# Altium schematic symbol library local.SchLib: 16 symbols
Pins are listed as number, name and electrical type; pins without a type are passive.

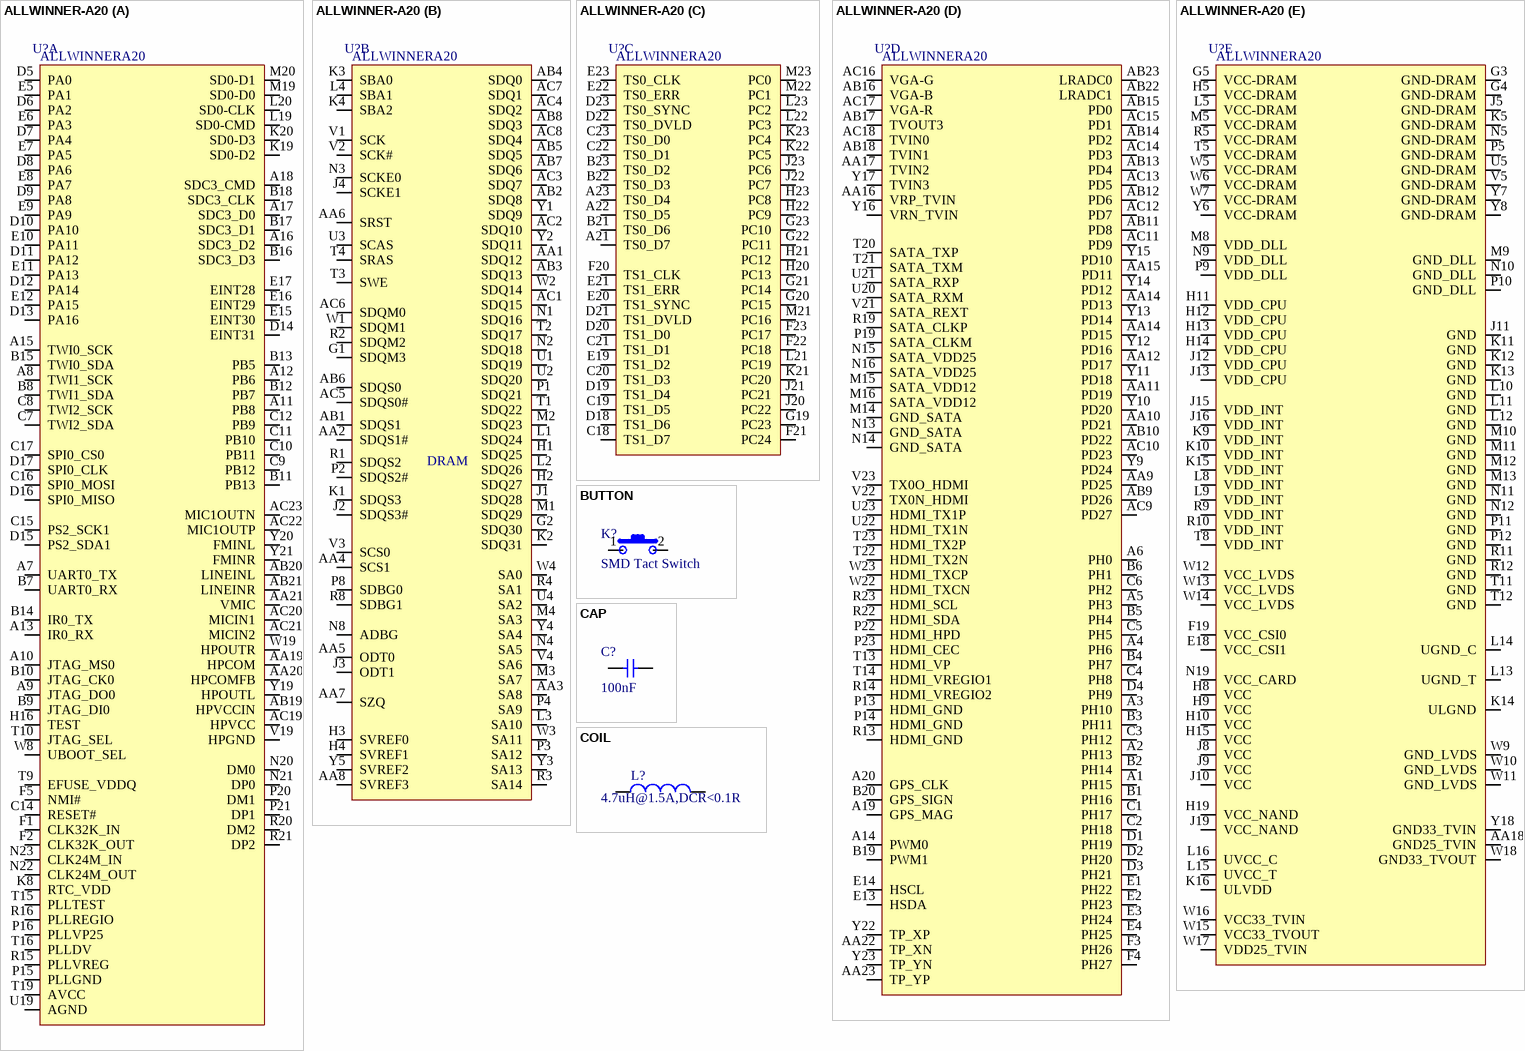
[diagram p0: symbols ALLWINNER-A20 to COIL]

## ALLWINNER-A20
designator U?, comment MPN: ALLWINNERA20  (hidden comment: Allwinner A20 SOC)
footprint A20
part A pins: A7 UART0_TX, A8 TWI1_SCK, A9 JTAG_DO0, A10 JTAG_MS0, A11 PB8, A12 PB6, A13 IR0_RX, A15 TWI0_SCK, A16 SDC3_D2, A17 SDC3_D0, A18 SDC3_CMD, AA19 HPCOM, AA20 HPCOMFB, AA21 VMIC, AB19 HPVCCIN, AB20 LINEINL, AB21 LINEINR, AC19 HPVCC, AC20 MICIN1, AC21 MICIN2, AC22 MIC1OUTP, AC23 MIC1OUTN, B7 UART0_RX, B8 TWI1_SDA, B9 JTAG_DI0, B10 JTAG_CK0, B11 PB13, B12 PB7, B13 PB5, B14 IR0_TX, B15 TWI0_SDA, B16 SDC3_D3, B17 SDC3_D1, B18 SDC3_CLK, C7 TWI2_SDA, C8 TWI2_SCK, C9 PB12, C10 PB11, C11 PB10, C12 PB9, C14 RESET#, C15 PS2_SCK1, C16 SPI0_MOSI, C17 SPI0_CS0, D5 PA0, D6 PA2, D7 PA4, D8 PA6, D9 PA8, D10 PA10, D11 PA12, D12 PA14, D13 PA16, D14 EINT31, D15 PS2_SDA1, D16 SPI0_MISO, D17 SPI0_CLK, E5 PA1, E6 PA3, E7 PA5, E8 PA7, E9 PA9, E10 PA11, E11 PA13, E12 PA15, E15 EINT30, E16 EINT29, E17 EINT28, F1 CLK32K_IN, F2 CLK32K_OUT, F5 NMI#, H16 TEST, K8 RTC_VDD, K19 SD0-D2, K20 SD0-D3, L19 SD0-CMD, L20 SD0-CLK, M19 SD0-D0, M20 SD0-D1, N20 DM0, N21 DP0, N22 CLK24M_OUT, N23 CLK24M_IN, P15 PLLGND, P16 PLLVP25, P20 DM1, P21 DP1, R15 PLLVREG, R16 PLLREGIO, R20 DM2, R21 DP2, T9 EFUSE_VDDQ, T10 JTAG_SEL, T15 PLLTEST, T16 PLLDV, T19 AVCC, U19 AGND, V19 HPGND, W8 UBOOT_SEL, W19 HPOUTR, Y19 HPOUTL, Y20 FMINL, Y21 FMINR
part B pins: AA1 SDQ12, AA2 SDQS1#, AA3 SA8 (power), AA4 SCS1, AA5 ODT0, AA6 SRST, AA7 SZQ, AA8 SVREF3 (power), AB1 SDQS1, AB2 SDQ8, AB3 SDQ13, AB4 SDQ0, AB5 SDQ5, AB6 SDQS0, AB7 SDQ6, AB8 SDQ3, AC1 SDQ15, AC2 SDQ10, AC3 SDQ7, AC4 SDQ2, AC5 SDQS0#, AC6 SDQM0, AC7 SDQ1, AC8 SDQ4, G1 SDQM3, G2 SDQ30 (power), H1 SDQ25 (power), H2 SDQ27 (power), H3 SVREF0 (power), H4 SVREF1 (power), J1 SDQ28 (power), J2 SDQS3#, J3 ODT1, J4 SCKE1, K1 SDQS3, K2 SDQ31 (power), K3 SBA0, K4 SBA2, L1 SDQ24 (power), L2 SDQ26 (power), L3 SA10 (power), L4 SBA1, M1 SDQ29 (power), M2 SDQ23 (power), M3 SA7 (power), M4 SA3 (power), N1 SDQ16, N2 SDQ18, N3 SCKE0, N4 SA5 (power), N8 ADBG, P1 SDQ21 (power), P2 SDQS2#, P3 SA12 (power), P4 SA9 (power), P8 SDBG0, R1 SDQS2, R2 SDQM2, R3 SA14 (power), R4 SA1 (power), R8 SDBG1, T1 SDQ22 (power), T2 SDQ17, T3 SWE, T4 SRAS, U1 SDQ19, U2 SDQ20, U3 SCAS, U4 SA2 (power), V1 SCK, V2 SCK#, V3 SCS0, V4 SA6 (power), W1 SDQM1, W2 SDQ14, W3 SA11 (power), W4 SA0 (power), Y1 SDQ9, Y2 SDQ11, Y3 SA13 (power), Y4 SA4 (power), Y5 SVREF2 (power)
part C pins: A21 TS0_D7, A22 TS0_D5, A23 TS0_D4, B21 TS0_D6, B22 TS0_D3, B23 TS0_D2, C18 TS1_D7, C19 TS1_D5, C20 TS1_D3, C21 TS1_D1, C22 TS0_D1, C23 TS0_D0, D18 TS1_D6, D19 TS1_D4, D20 TS1_D0, D21 TS1_DVLD, D22 TS0_DVLD, D23 TS0_SYNC, E19 TS1_D2, E20 TS1_SYNC, E21 TS1_ERR, E22 TS0_ERR, E23 TS0_CLK, F20 TS1_CLK, F21 PC24, F22 PC18, F23 PC17, G19 PC23, G20 PC15, G21 PC14, G22 PC11, G23 PC10, H20 PC13, H21 PC12, H22 PC9, H23 PC8, J20 PC22, J21 PC21, J22 PC7, J23 PC6, K21 PC20, K22 PC5, K23 PC4, L21 PC19, L22 PC3, L23 PC2, M21 PC16, M22 PC1, M23 PC0
part D pins: A1 PH15, A2 PH13, A3 PH10, A4 PH6, A5 PH3, A6 PH0, A14 PWM0, A19 GPS_MAG, A20 GPS_CLK, AA9 PD25, AA10 PD21, AA11 PD19, AA12 PD17, AA14 PD13, AA14 PD15, AA15 PD11, AA16 VRP_TVIN, AA17 TVIN2, AA22 TP_XN, AA23 TP_YP, AB9 PD26, AB10 PD22, AB11 PD8, AB12 PD6, AB13 PD4, AB14 PD2, AB15 PD0, AB16 VGA-B, AB17 TVOUT3, AB18 TVIN1, AB22 LRADC1, AB23 LRADC0, AC9 PD27, AC10 PD23, AC11 PD9, AC12 PD7, AC13 PD5, AC14 PD3, AC15 PD1, AC16 VGA-G, AC17 VGA-R, AC18 TVIN0, B1 PH16, B2 PH14, B3 PH11, B4 PH7, B5 PH4, B6 PH1, B19 PWM1, B20 GPS_SIGN, C1 PH17, C2 PH18, C3 PH12, C4 PH8, C5 PH5, C6 PH2, D1 PH19, D2 PH20, D3 PH21, D4 PH9, E1 PH22, E2 PH23, E3 PH24, E4 PH25, E13 HSDA, E14 HSCL, F3 PH26, F4 PH27, M14 GND_SATA, M15 SATA_VDD12, M16 SATA_VDD12, N13 GND_SATA, N14 GND_SATA, N15 SATA_VDD25, N16 SATA_VDD25, P13 HDMI_GND, P14 HDMI_GND, P19 SATA_CLKM, P22 HDMI_HPD, P23 HDMI_CEC, R13 HDMI_GND, R14 HDMI_VREGIO2, R19 SATA_CLKP, R22 HDMI_SDA, R23 HDMI_SCL, T13 HDMI_VP, T14 HDMI_VREGIO1, T20 SATA_TXP, T21 SATA_TXM, T22 HDMI_TX2N, T23 HDMI_TX2P, U20 SATA_RXM, U21 SATA_RXP, U22 HDMI_TX1N, U23 HDMI_TX1P, V21 SATA_REXT, V22 TX0N_HDMI, V23 TX0O_HDMI, W22 HDMI_TXCN, W23 HDMI_TXCP, Y9 PD24, Y10 PD20, Y11 PD18, Y12 PD16, Y13 PD14, Y14 PD12, Y15 PD10, Y16 VRN_TVIN, Y17 TVIN3, Y22 TP_XP, Y23 TP_YN
part E pins: AA18 GND25_TVIN, E18 VCC_CSI1, F19 VCC_CSI0, G3 GND-DRAM, G4 GND-DRAM, G5 VCC-DRAM, H5 VCC-DRAM, H8 VCC, H9 VCC, H10 VCC, H11 VDD_CPU, H12 VDD_CPU, H13 VDD_CPU, H14 VDD_CPU, H15 VCC, H19 VCC_NAND, J5 GND-DRAM, J8 VCC, J9 VCC, J10 VCC, J11 GND, J12 VDD_CPU, J13 VDD_CPU, J15 VDD_INT, J16 VDD_INT, J19 VCC_NAND, K5 GND-DRAM, K9 VDD_INT, K10 VDD_INT, K11 GND, K12 GND, K13 GND, K14 ULGND, K15 VDD_INT, K16 ULVDD, L5 VCC-DRAM, L8 VDD_INT, L9 VDD_INT, L10 GND, L11 GND, L12 GND, L13 UGND_T, L14 UGND_C, L15 UVCC_T, L16 UVCC_C, M5 VCC-DRAM, M8 VDD_DLL, M9 GND_DLL, M10 GND, M11 GND, M12 GND, M13 GND, N5 GND-DRAM, N9 VDD_DLL, N10 GND_DLL, N11 GND, N12 GND, N19 VCC_CARD, P5 GND-DRAM, P9 VDD_DLL, P10 GND_DLL, P11 GND, P12 GND, R5 VCC-DRAM, R9 VDD_INT, R10 VDD_INT, R11 GND, R12 GND, T5 VCC-DRAM, T8 VDD_INT, T11 GND, T12 GND, U5 GND-DRAM, V5 GND-DRAM, W5 VCC-DRAM, W6 VCC-DRAM, W7 VCC-DRAM, W9 GND_LVDS, W10 GND_LVDS, W11 GND_LVDS, W12 VCC_LVDS, W13 VCC_LVDS, W14 VCC_LVDS, W15 VCC33_TVOUT, W16 VCC33_TVIN, W17 VDD25_TVIN, W18 GND33_TVOUT, Y6 VCC-DRAM, Y7 GND-DRAM, Y8 GND-DRAM, Y18 GND33_TVIN
part B text: DRAM

## BUTTON
designator K?, comment SMD Tact Switch
MPN: ?
pins: 1, 2

## CAP
designator C?, comment value 100nF  (hidden comment: SMD Capacitor Chip)
SMD Capacitor; Tolerance: 20%; Voltage: 50V; MPN: ?; Package / Case: 0402
footprint C0402
footprint C0603
footprint C0805
footprint C1206
footprint C1210
pins: 1, 2

## COIL
designator L?, comment value 4.7uH@1.5A,DCR<0.1R  (hidden comment: SMD Coil Chip)
SMD Coil; Current Rating: 1A; Inductance: 4.7uH; MPN: ?; Series Resistance: ?
footprint L0603
footprint L1206
pins: 1, 2

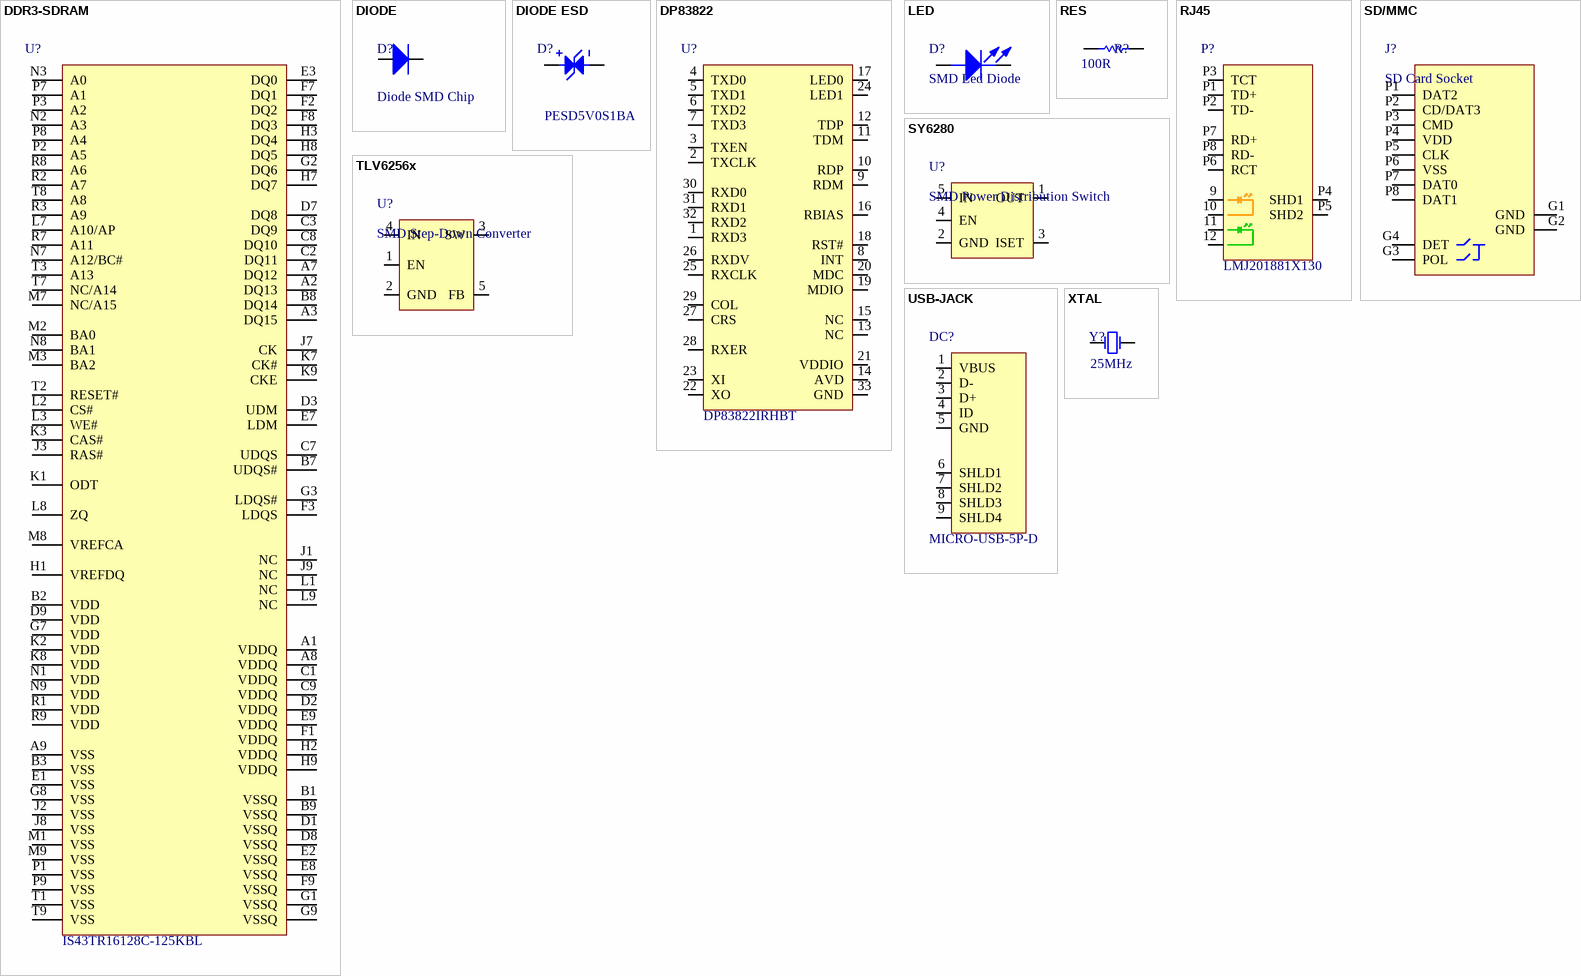
[diagram p1: symbols DDR3-SDRAM to XTAL]

## DDR3-SDRAM
designator U?, comment MPN: IS43TR16128C-125KBL  (hidden comment: DDR3 SDRAM)
DDR3 SDRAM 96-ball FBGA; Manufacturer: ISSI
pins: A1 VDDQ, A2 DQ13, A3 DQ15, A7 DQ12, A8 VDDQ, A9 VSS, B1 VSSQ, B2 VDD, B3 VSS, B7 UDQS#, B8 DQ14, B9 VSSQ, C1 VDDQ, C2 DQ11, C3 DQ9, C7 UDQS, C8 DQ10, C9 VDDQ, D1 VSSQ, D2 VDDQ, D3 UDM, D7 DQ8, D8 VSSQ, D9 VDD, E1 VSS, E2 VSSQ, E3 DQ0, E7 LDM, E8 VSSQ, E9 VDDQ, F1 VDDQ, F2 DQ2, F3 LDQS, F7 DQ1, F8 DQ3, F9 VSSQ, G1 VSSQ, G2 DQ6, G3 LDQS#, G7 VDD, G8 VSS, G9 VSSQ, H1 VREFDQ, H2 VDDQ, H3 DQ4, H7 DQ7, H8 DQ5, H9 VDDQ, J1 NC, J2 VSS, J3 RAS#, J7 CK, J8 VSS, J9 NC, K1 ODT, K2 VDD, K3 CAS#, K7 CK#, K8 VDD, K9 CKE, L1 NC, L2 CS#, L3 WE#, L7 A10/AP, L8 ZQ, L9 NC, M1 VSS, M2 BA0, M3 BA2, M7 NC/A15, M8 VREFCA, M9 VSS, N1 VDD, N2 A3, N3 A0, N7 A12/BC#, N8 BA1, N9 VDD, P1 VSS, P2 A5, P3 A2, P7 A1, P8 A4, P9 VSS, R1 VDD, R2 A7, R3 A9, R7 A11, R8 A6, R9 VDD, T1 VSS, T2 RESET#, T3 A13, T7 NC/A14, T8 A8, T9 VSS

## DIODE
designator D?, comment Diode SMD Chip
SMD Diode; MPN: ?; Value: ?; Voltage: ?
pins: 1 A, 2 K

## DIODE ESD
designator D?, comment MPN: PESD5V0S1BA  (hidden comment: SMD ESD Diode)
SMD ESD Diode Chip; Manufacturer: ?
pins: 1, 2

## DP83822
designator U?, comment MPN: DP83822IRHBT  (hidden comment: SMD Ethernet PHY)
DP83822 Robust, Low Power 10/100 Mbps Ethernet Physical Layer Transceiver; Manufacturer: Texas Instruments
pins: 1 RXD3, 2 TXCLK, 3 TXEN, 4 TXD0, 5 TXD1, 6 TXD2, 7 TXD3, 8 INT, 9 RDM, 10 RDP, 11 TDM, 12 TDP, 13 NC, 14 AVD, 15 NC, 16 RBIAS, 17 LED0, 18 RST#, 19 MDIO, 20 MDC, 21 VDDIO, 22 XO, 23 XI, 24 LED1, 25 RXCLK, 26 RXDV, 27 CRS, 28 RXER, 29 COL, 30 RXD0, 31 RXD1, 32 RXD2, 33 GND

## LED
designator D?, comment SMD Led Diode
SMD Led Diode Chip; MPN: ?; Package / Case: LED0805; Manufacturer: ?
pins: 1, 2

## RES
designator R?, comment value 100R  (hidden comment: SMD Resistor Chip)
SMD Resistor; Tolerance: 1%; Package / Case: 0402; MPN: ?
footprint R0402
footprint R0603
footprint R0805
footprint R1206
pins: 1, 2

## RJ45
designator P?, comment MPN: LMJ201881X130  (hidden comment: RJ45 Connector)
RJ45 Connector with Magnetics
pins: 9, 10, 11, 12, P1 TD+, P2 TD-, P3 TCT, P4 SHD1, P5 SHD2, P6 RCT, P7 RD+, P8 RD-

## SD/MMC
designator J?, comment SD Card Socket
SMD SD Card Socket; MPN: 502570-0893; Manufacturer: Molex
pins: G1 GND, G2 GND, G3 POL, G4 DET, P1 DAT2, P2 CD/DAT3, P3 CMD, P4 VDD, P5 CLK, P6 VSS, P7 DAT0, P8 DAT1

## SY6280
designator U?, comment SMD Power Distribution Switch
Low Loss Power Distribution Switch; MPN: SY6280; Manufacturer: SILERGY
pins: 1 OUT, 2 GND, 3 ISET, 4 EN, 5 IN

## TLV6256x
designator U?, comment SMD Step-Down Converter
TLV6256x 1.5-A High Efficiency Step-Down Converters in SOT-23 5-Pin Package; MPN: TLV62565; Manufacturer: Texas Instruments
pins: 1 EN, 2 GND, 3 SW, 4 IN, 5 FB

## USB-JACK
designator DC?, comment MPN: MICRO-USB-5P-D  (hidden comment: SMD USB Jack)
SMD USB DC Jack
pins: 1 VBUS, 2 D-, 3 D+, 4 ID, 5 GND, 6 SHLD1, 7 SHLD2, 8 SHLD3, 9 SHLD4

## XTAL
designator Y?  Frequency: 25MHz  (hidden comment: XTAL)
SMD Crystal Oscillator; MPN: ?
pins: 1 OSC1, 2 OSC2